# Altium footprint library LU2EE20A.PcbLib: 20 footprints (part 1 of 2)
Each footprint in its own frame and in the unit in brackets; x right, y up, seen from the top. Pads: shape width x height; smd on the part's side, far side on the other; paste and mask are expansions set on the pad; w line width, h text height; cw(c..) or ccw(c..) is an arc to the next point about the centre after c.
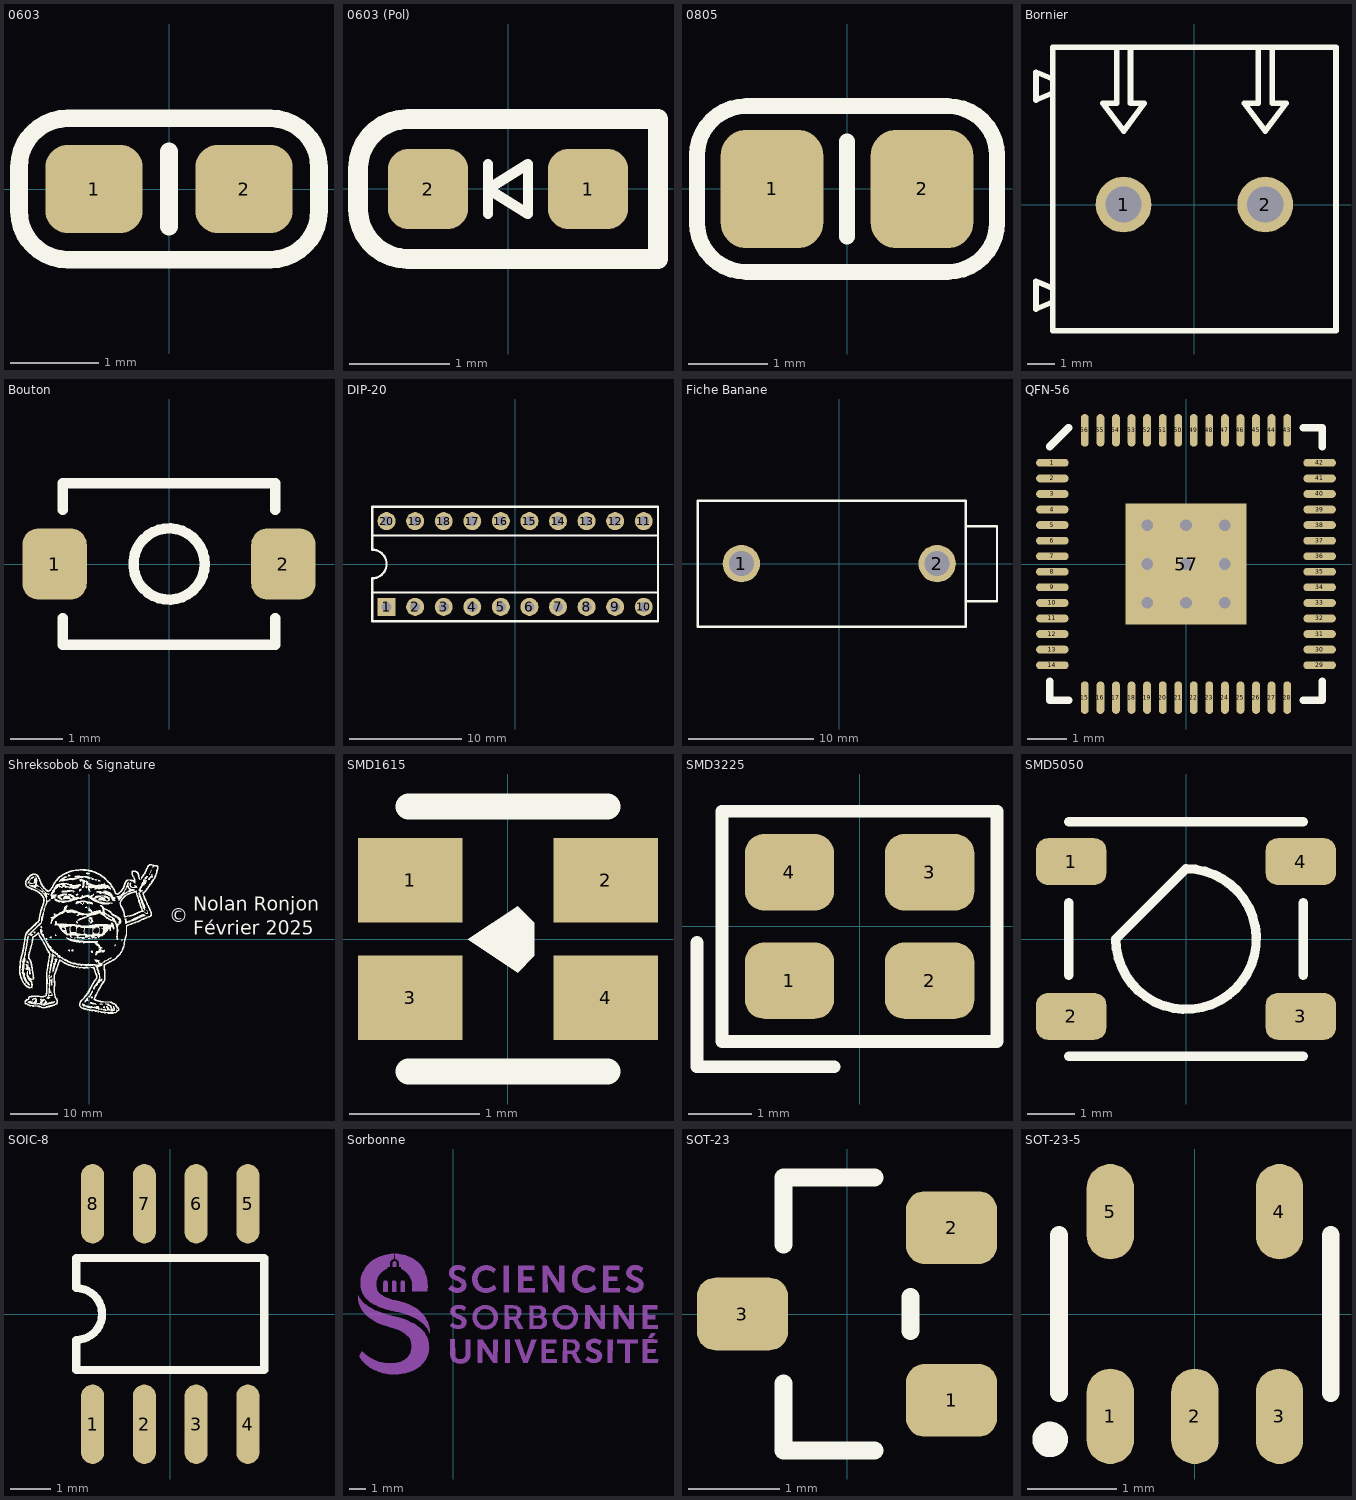
[diagram p0: the footprints below, top view; thin cyan lines are the x and y axes]

## 0603 [mm]
pads (2):
  rrect50% 1.1x1 smd: 1(-0.85,0) 2(0.85,0)
Top Overlay:
  lines w0.2: 0,-0.425 0,0.425 ; -1.7,-0.25 ccw(c-1.15,-0.25) -1.15,-0.8 1.15,-0.8 ccw(c1.15,-0.25) 1.7,-0.25 1.7,0.25 ccw(c1.15,0.25) 1.15,0.8 -1.15,0.8 ccw(c-1.15,0.25) -1.7,0.25 -1.7,-0.25

## 0603 (Pol) [mm]
pads (2):
  rrect50% 0.8x0.8 smd: 1(0.8,0) 2(-0.8,0)
Top Overlay:
  lines w0.1: -0.2,-0.25 -0.2,0.25 ; -0.2,0 0.2,0.25 0.2,-0.25 -0.2,0
  lines w0.2: -1.5,-0.2 ccw(c-1,-0.2) -1,-0.7 1.5,-0.7 1.5,0.7 -1,0.7 ccw(c-1,0.2) -1.5,0.2 -1.5,-0.2

## 0805 [mm]
pads (2):
  rrect50% 1.3x1.5 smd: 1(-0.95,0) 2(0.95,0)
Top Overlay:
  lines w0.2: 0,-0.6 0,0.6 ; -1.9,-0.425 ccw(c-1.275,-0.425) -1.275,-1.05 1.275,-1.05 ccw(c1.275,-0.425) 1.9,-0.425 1.9,0.425 ccw(c1.275,0.425) 1.275,1.05 -1.275,1.05 ccw(c-1.275,0.425) -1.9,0.425 -1.9,-0.425

## Bornier [mm]
pads (2):
  round 2 hole 1.3: 1(-2.54,0) 2(2.54,0)
Top Overlay:
  lines w0.2: -5.08,-3.5 -5.68,-3.75 -5.68,-2.75 -5.08,-3 ; -5.08,4 -5.68,3.75 -5.68,4.75 -5.08,4.5 ; -2.79,5.638 -2.79,3.638 -3.29,3.638 -2.54,2.638 -1.79,3.638 -2.29,3.638 -2.29,5.638 ; 2.29,5.638 2.29,3.638 1.79,3.638 2.54,2.638 3.29,3.638 2.79,3.638 2.79,5.638 ; -5.08,-4.522 5.08,-4.522 5.08,5.638 -5.08,5.638 -5.08,-4.522

## Bouton [mm]
pads (2):
  rrect50% 1.23x1.36 smd: 1(-2.185,0) 2(2.185,0)
Top Overlay:
  circle w0.2: c0,0 r0.68
  lines w0.2: -2.026,-1.036 -2.026,-1.541 2.026,-1.541 2.026,-1.036 ; -2.026,1.036 -2.026,1.541 2.026,1.541 2.026,1.036

## DIP-20 [mm]
pads (20):
  rect 1.6x1.6 hole 0.9: 1(-11.43,-3.81)
  round 1.6 hole 0.9: 2(-8.89,-3.81) 3(-6.35,-3.81) 4(-3.81,-3.81) 5(-1.27,-3.81) 6(1.27,-3.81) 7(3.81,-3.81) 8(6.35,-3.81) 9(8.89,-3.81) 10(11.43,-3.81) 11(11.43,3.81) 12(8.89,3.81) 13(6.35,3.81) 14(3.81,3.81) 15(1.27,3.81) 16(-1.27,3.81) 17(-3.81,3.81) 18(-6.35,3.81) 19(-8.89,3.81) 20(-11.43,3.81)
Top Overlay:
  lines w0.2: -12.7,-2.54 -12.7,-1.27 ccw(c-12.7,0) -11.43,0 ccw(c-12.7,0) -12.7,1.27 -12.7,2.54 ; -12.7,-2.54 -12.7,-5.08 12.7,-5.08 12.7,-2.54 ; -12.7,-2.54 12.7,-2.54 ; -12.7,2.54 -12.7,5.08 12.7,5.08 12.7,2.54 ; -12.7,2.54 12.7,2.54 ; 12.7,-2.54 12.7,2.54

## Fiche Banane [mm]
pads (2):
  round 3 hole 2: 1(-7.85,0) 2(7.85,0)
Top Overlay:
  lines w0.2: -11.35,-5.05 -11.35,5.05 10.15,5.05 10.15,-5.05 -11.32,-5.05 ; 10.15,-3 12.65,-3 12.65,3.003 10.15,3.003
Mechanical 15:
  region: -11.29,-5.05 -11.29,-5.025 -11.325,-4.99 -11.375,-4.99 -11.41,-5.025 -11.41,-5.05 -11.41,-5.075 -11.375,-5.11 -11.325,-5.11 -11.29,-5.075

## QFN-56 [mm]
pads (57):
  oval 0.84x0.2 smd: 1(-3.435,2.6) 2(-3.435,2.2) 3(-3.435,1.8) 4(-3.435,1.4) 5(-3.435,1) 6(-3.435,0.6) 7(-3.435,0.2) 8(-3.435,-0.2) 9(-3.435,-0.6) 10(-3.435,-1) 11(-3.435,-1.4) 12(-3.435,-1.8) 13(-3.435,-2.2) 14(-3.435,-2.6) 29(3.435,-2.6) 30(3.435,-2.2) 31(3.435,-1.8) 32(3.435,-1.4) 33(3.435,-1) 34(3.435,-0.6) 35(3.435,-0.2) 36(3.435,0.2) 37(3.435,0.6) 38(3.435,1) 39(3.435,1.4) 40(3.435,1.8) 41(3.435,2.2) 42(3.435,2.6)
  oval 0.2x0.84 smd: 15(-2.6,-3.435) 16(-2.2,-3.435) 17(-1.8,-3.435) 18(-1.4,-3.435) 19(-1,-3.435) 20(-0.6,-3.435) 21(-0.2,-3.435) 22(0.2,-3.435) 23(0.6,-3.435) 24(1,-3.435) 25(1.4,-3.435) 26(1.8,-3.435) 27(2.2,-3.435) 28(2.6,-3.435) 43(2.6,3.435) 44(2.2,3.435) 45(1.8,3.435) 46(1.4,3.435) 47(1,3.435) 48(0.6,3.435) 49(0.2,3.435) 50(-0.2,3.435) 51(-0.6,3.435) 52(-1,3.435) 53(-1.4,3.435) 54(-1.8,3.435) 55(-2.2,3.435) 56(-2.6,3.435)
  rect 3.1x3.1 smd paste-0.57: 57(0,0)
via 0,1 diameter 0.6 hole 0.3
via 0,0 diameter 0.6 hole 0.3
via -1,1 diameter 0.6 hole 0.3
via 1,1 diameter 0.6 hole 0.3
via -1,0 diameter 0.6 hole 0.3
via 0,-1 diameter 0.6 hole 0.3
via 1,0 diameter 0.6 hole 0.3
via 1,-1 diameter 0.6 hole 0.3
via -1,-1 diameter 0.6 hole 0.3
Top Overlay:
  lines w0.2: -3.5,-3.02 -3.5,-3.5 -3.02,-3.5 ; -3.5,3.02 -3.02,3.5 ; 3.02,-3.5 3.5,-3.5 3.5,-3.02 ; 3.02,3.5 3.5,3.5 3.5,3.02

## Shreksobob & Signature [mm]
Top Overlay:
  drawing of 77 lines, arcs and shapes, not listed
  text "Nolan Ronjon / Février 2025" at 22,0 h5
  text "©" at 17,2.543 h5

## SMD1615 [mm]
pads (4):
  rect 0.8x0.65 smd paste+0 mask+0.05: 1(-0.75,0.45) 2(0.75,0.45) 3(-0.75,-0.45) 4(0.75,-0.45)
Top Overlay:
  region: 0.2,-0.13 0.2,0.124 0.073,0.251 -0.308,-0.003 0.073,-0.257
  lines w0.2: -0.762,-1.016 0.762,-1.016 ; -0.762,1.016 0.762,1.016

## SMD3225 [mm]
pads (4):
  rrect50% 1.4x1.2 smd: 1(-1.1,-0.85) 2(1.1,-0.85) 3(1.1,0.85) 4(-1.1,0.85)
Top Overlay:
  lines w0.2: -2.55,-0.25 -2.55,-2.2 -0.4,-2.2 ; -2.156,-1.806 2.156,-1.806 2.156,1.806 -2.156,1.806 -2.156,-1.806
Mechanical 6:
  circle w0.254: c-1.27,-0.889 r0.127
Mechanical 15:
  region: -1.5,-0.35 -0.6,-0.35 -0.6,-1.15 -1.5,-1.15
  region: 0.6,-0.35 1.5,-0.35 1.5,-1.15 0.6,-1.15
  region: 0.6,1.15 1.5,1.15 1.5,0.35 0.6,0.35
  region: -1.5,1.15 -0.6,1.15 -0.6,0.35 -1.5,0.35
  region: -1.54,-1.25 -1.54,-1.225 -1.575,-1.19 -1.625,-1.19 -1.66,-1.225 -1.66,-1.25 -1.66,-1.275 -1.625,-1.31 -1.575,-1.31 -1.54,-1.275

## SMD5050 [mm]
pads (4):
  rrect50% 1.5x1 smd: 1(-2.451,1.65) 2(-2.451,-1.65) 3(2.449,-1.65) 4(2.449,1.65)
Top Overlay:
  lines w0.2: -2.501,-2.5 2.499,-2.5 ; -2.501,-0.77 -2.501,0.77 ; -2.501,2.5 2.499,2.5 ; 2.499,-0.77 2.499,0.77 ; -1.501,0 ccw(c0,0) 0,1.5 -1.501,0

## SOIC-8 [mm]
pads (8):
  oval 0.568x1.95 smd: 1(-1.905,-2.705) 2(-0.635,-2.705) 3(0.635,-2.705) 4(1.905,-2.705) 5(1.905,2.705) 6(0.635,2.705) 7(-0.635,2.705) 8(-1.905,2.705)
Top Overlay:
  lines w0.2: -2.306,-1.374 2.306,-1.374 2.306,1.374 -2.306,1.374 -2.306,0.635 cw(c-2.306,0) -1.671,0 cw(c-2.306,0) -2.306,-0.635 -2.306,-1.374

## Sorbonne [mm]
Top Solder:
  drawing of 34 lines, arcs and shapes, not listed

## SOT-23 [mm]
pads (3):
  rrect50% 1x0.8 smd: 1(1.15,-0.95) 2(1.15,0.95) 3(-1.15,0)
Top Overlay:
  lines w0.2: -0.7,-0.763 -0.7,-1.5 0.3,-1.5 ; -0.7,0.763 -0.7,1.5 0.3,1.5 ; 0.7,-0.187 0.7,0.187

## SOT-23-5 [mm]
pads (5):
  oval 0.532x1.072 smd: 1(-0.95,-1.149) 2(0,-1.149) 3(0.95,-1.149) 4(0.95,1.149) 5(-0.95,1.149)
Top Overlay:
  circle w0.2: c-1.626,-1.409 r0.1
  lines w0.2: -1.526,-0.889 -1.526,0.889 ; 1.526,-0.889 1.526,0.889